# Altium footprint library badge.PcbLib: 33 footprints (part 3 of 3)
Each footprint in its own frame and in the unit in brackets; x right, y up, seen from the top. Pads: shape width x height; smd on the part's side, far side on the other; paste and mask are expansions set on the pad; w line width, h text height; cw(c..) or ccw(c..) is an arc to the next point about the centre after c.
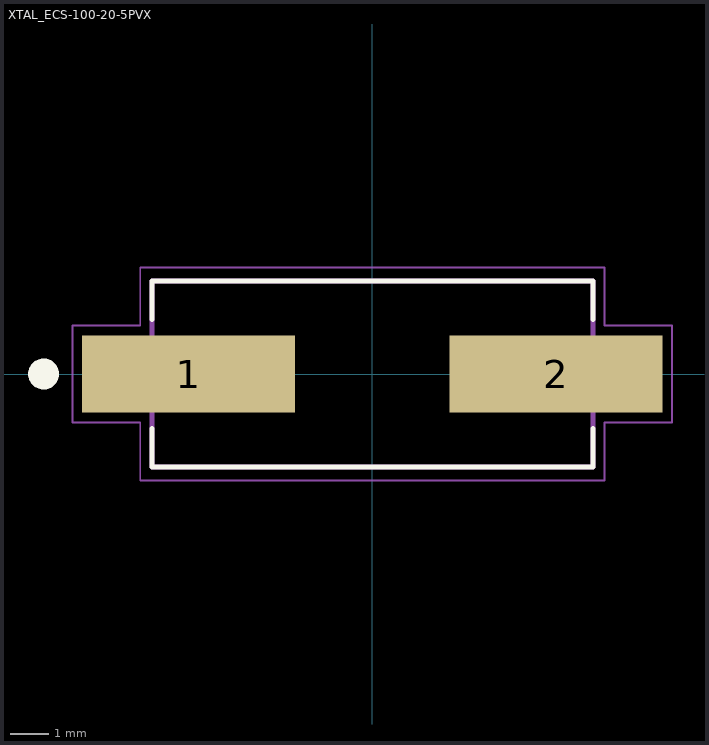
[diagram p2: the footprint, top view; thin cyan lines are the x and y axes]

## XTAL_ECS-100-20-5PVX [mm]
pads (2):
  rect 5.5x2 smd: 1(-4.75,0) 2(4.75,0)
Top Overlay:
  circle w0.4: c-8.5,0 r0.2
  lines w0.127: -5.7,-1.41 -5.7,-2.4 5.7,-2.4 5.7,-1.41 ; -5.7,1.41 -5.7,2.4 5.7,2.4 5.7,1.41
Mechanical 13:
  circle w0.4: c-6.75,0 r0.2
  lines w0.127: -5.7,-2.4 -5.7,2.4 5.7,2.4 5.7,-2.4 -5.7,-2.4
Mechanical 15:
  lines w0.05: -7.75,-1.25 -6,-1.25 -6,-2.75 6,-2.75 6,-1.25 7.75,-1.25 7.75,1.25 6,1.25 6,2.75 -6,2.75 -6,1.25 -7.75,1.25 -7.75,-1.25